# Altium schematic symbol library MCU_NXP_HC11.SchLib: 10 symbols
Pins are listed as number, name and electrical type; pins without a type are passive.

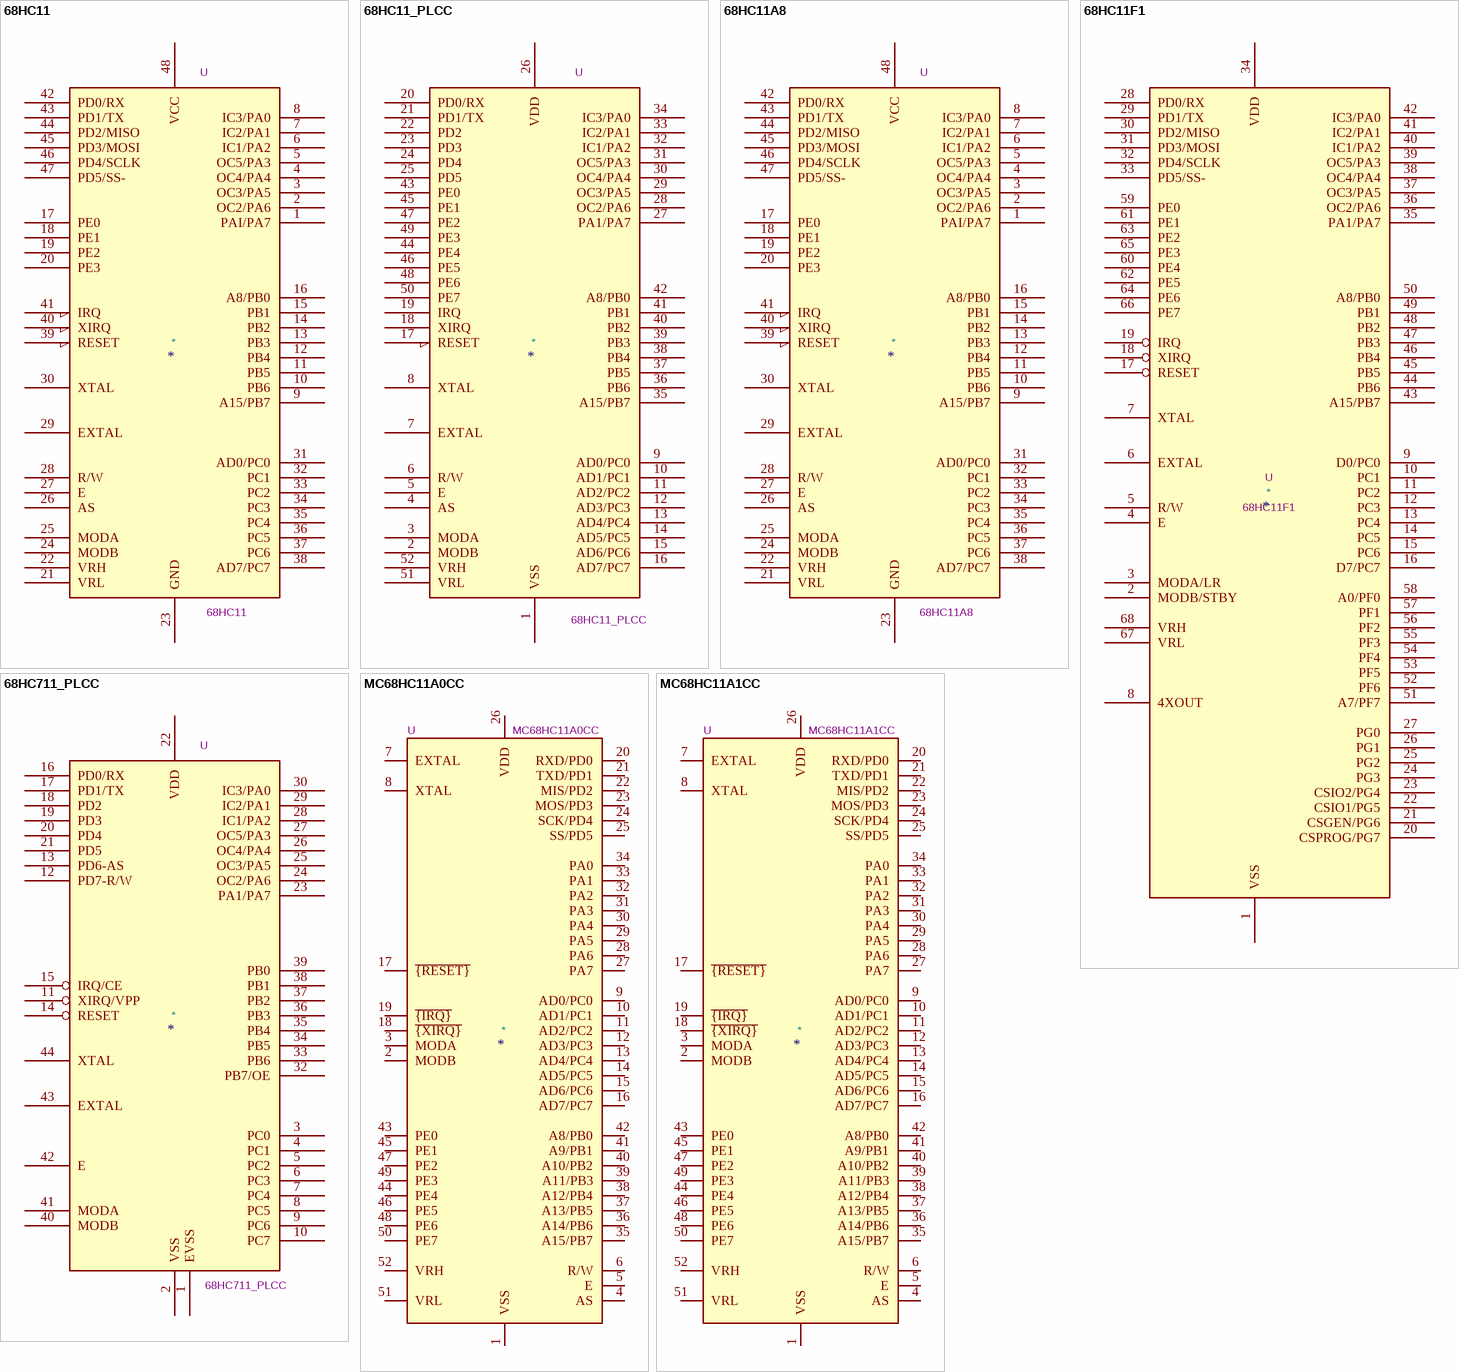
[diagram p0: symbols 68HC11 to MC68HC11A1CC]

## 68HC11
designator *  value 68HC11  Reference: U
ki_keywords: MCU Microcontroller HC11; ki_description: HC11 Microcontroller
pins: 1 PAI/PA7, 2 OC2/PA6, 3 OC3/PA5, 4 OC4/PA4, 5 OC5/PA3, 6 IC1/PA2, 7 IC2/PA1, 8 IC3/PA0, 9 A15/PB7, 10 PB6, 11 PB5, 12 PB4, 13 PB3, 14 PB2, 15 PB1, 16 A8/PB0, 17 PE0, 18 PE1, 19 PE2, 20 PE3, 21 VRL, 22 VRH, 23 GND, 24 MODB, 25 MODA, 26 AS, 27 E, 28 R/W, 29 EXTAL, 30 XTAL, 31 AD0/PC0, 32 PC1, 33 PC2, 34 PC3, 35 PC4, 36 PC5, 37 PC6, 38 AD7/PC7, 39 RESET, 40 XIRQ, 41 IRQ, 42 PD0/RX, 43 PD1/TX, 44 PD2/MISO, 45 PD3/MOSI, 46 PD4/SCLK, 47 PD5/SS-, 48 VCC

## 68HC11_PLCC
designator *  value 68HC11_PLCC  Reference: U
ki_keywords: MCU Microcontroller HC11; ki_description: HC11 Microcontroller, PLCC-52
pins: 1 VSS, 2 MODB, 3 MODA, 4 AS, 5 E, 6 R/W, 7 EXTAL, 8 XTAL, 9 AD0/PC0, 10 AD1/PC1, 11 AD2/PC2, 12 AD3/PC3, 13 AD4/PC4, 14 AD5/PC5, 15 AD6/PC6, 16 AD7/PC7, 17 RESET, 18 XIRQ, 19 IRQ, 20 PD0/RX, 21 PD1/TX, 22 PD2, 23 PD3, 24 PD4, 25 PD5, 26 VDD, 27 PA1/PA7, 28 OC2/PA6, 29 OC3/PA5, 30 OC4/PA4, 31 OC5/PA3, 32 IC1/PA2, 33 IC2/PA1, 34 IC3/PA0, 35 A15/PB7, 36 PB6, 37 PB5, 38 PB4, 39 PB3, 40 PB2, 41 PB1, 42 A8/PB0, 43 PE0, 44 PE4, 45 PE1, 46 PE5, 47 PE2, 48 PE6, 49 PE3, 50 PE7, 51 VRL, 52 VRH

## 68HC11A8
designator *  value 68HC11A8  Reference: U
ki_keywords: MCU Microcontroller HC11; ki_description: HC11 Microcontroller
pins: 1 PAI/PA7, 2 OC2/PA6, 3 OC3/PA5, 4 OC4/PA4, 5 OC5/PA3, 6 IC1/PA2, 7 IC2/PA1, 8 IC3/PA0, 9 A15/PB7, 10 PB6, 11 PB5, 12 PB4, 13 PB3, 14 PB2, 15 PB1, 16 A8/PB0, 17 PE0, 18 PE1, 19 PE2, 20 PE3, 21 VRL, 22 VRH, 23 GND, 24 MODB, 25 MODA, 26 AS, 27 E, 28 R/W, 29 EXTAL, 30 XTAL, 31 AD0/PC0, 32 PC1, 33 PC2, 34 PC3, 35 PC4, 36 PC5, 37 PC6, 38 AD7/PC7, 39 RESET, 40 XIRQ, 41 IRQ, 42 PD0/RX, 43 PD1/TX, 44 PD2/MISO, 45 PD3/MOSI, 46 PD4/SCLK, 47 PD5/SS-, 48 VCC

## 68HC11F1
designator *  value 68HC11F1  Reference: U
ki_keywords: MCU Microcontroller HC11; ki_description: HC11 Microcontroller; Datasheet: https://www.nxp.com/docs/en/data-sheet/MC68HC11FTS.pdf
pins: 1 VSS, 2 MODB/STBY, 3 MODA/LR, 4 E, 5 R/W, 6 EXTAL, 7 XTAL, 8 4XOUT, 9 D0/PC0, 10 PC1, 11 PC2, 12 PC3, 13 PC4, 14 PC5, 15 PC6, 16 D7/PC7, 17 RESET, 18 XIRQ, 19 IRQ, 20 CSPROG/PG7, 21 CSGEN/PG6, 22 CSIO1/PG5, 23 CSIO2/PG4, 24 PG3, 25 PG2, 26 PG1, 27 PG0, 28 PD0/RX, 29 PD1/TX, 30 PD2/MISO, 31 PD3/MOSI, 32 PD4/SCLK, 33 PD5/SS-, 34 VDD, 35 PA1/PA7, 36 OC2/PA6, 37 OC3/PA5, 38 OC4/PA4, 39 OC5/PA3, 40 IC1/PA2, 41 IC2/PA1, 42 IC3/PA0, 43 A15/PB7, 44 PB6, 45 PB5, 46 PB4, 47 PB3, 48 PB2, 49 PB1, 50 A8/PB0, 51 A7/PF7, 52 PF6, 53 PF5, 54 PF4, 55 PF3, 56 PF2, 57 PF1, 58 A0/PF0, 59 PE0, 60 PE4, 61 PE1, 62 PE5, 63 PE2, 64 PE6, 65 PE3, 66 PE7, 67 VRL, 68 VRH

## 68HC711_PLCC
designator *  value 68HC711_PLCC  Reference: U
ki_keywords: MCU Microcontroller HC11; ki_description: HC11 Microcontroller, PLCC-44
pins: 1 EVSS, 2 VSS, 3 PC0, 4 PC1, 5 PC2, 6 PC3, 7 PC4, 8 PC5, 9 PC6, 10 PC7, 11 XIRQ/VPP, 12 PD7-R/W, 13 PD6-AS, 14 RESET, 15 IRQ/CE, 16 PD0/RX, 17 PD1/TX, 18 PD2, 19 PD3, 20 PD4, 21 PD5, 22 VDD, 23 PA1/PA7, 24 OC2/PA6, 25 OC3/PA5, 26 OC4/PA4, 27 OC5/PA3, 28 IC1/PA2, 29 IC2/PA1, 30 IC3/PA0, 32 PB7/OE, 33 PB6, 34 PB5, 35 PB4, 36 PB3, 37 PB2, 38 PB1, 39 PB0, 40 MODB, 41 MODA, 42 E, 43 EXTAL, 44 XTAL

## MC68HC11A0CC
designator *  value MC68HC11A0CC  Reference: U
ki_keywords: HC11 MCU Microcotroller; ki_description: ROMless, 256B RAM
pins: 1 VSS, 2 MODB, 3 MODA, 4 AS, 5 E, 6 R/W, 7 EXTAL, 8 XTAL, 9 AD0/PC0, 10 AD1/PC1, 11 AD2/PC2, 12 AD3/PC3, 13 AD4/PC4, 14 AD5/PC5, 15 AD6/PC6, 16 AD7/PC7, 17 ~{{RESET}}, 18 ~{{XIRQ}}, 19 ~{{IRQ}}, 20 RXD/PD0, 21 TXD/PD1, 22 MIS/PD2, 23 MOS/PD3, 24 SCK/PD4, 25 SS/PD5, 26 VDD, 27 PA7, 28 PA6, 29 PA5, 30 PA4, 31 PA3, 32 PA2, 33 PA1, 34 PA0, 35 A15/PB7, 36 A14/PB6, 37 A13/PB5, 38 A12/PB4, 39 A11/PB3, 40 A10/PB2, 41 A9/PB1, 42 A8/PB0, 43 PE0, 44 PE4, 45 PE1, 46 PE5, 47 PE2, 48 PE6, 49 PE3, 50 PE7, 51 VRL, 52 VRH

## MC68HC11A1CC
designator *  value MC68HC11A1CC  Reference: U
ki_keywords: HC11 MCU Microcotroller; ki_description: ROMLess, 256B RAM, 512B EEPROM
pins: 1 VSS, 2 MODB, 3 MODA, 4 AS, 5 E, 6 R/W, 7 EXTAL, 8 XTAL, 9 AD0/PC0, 10 AD1/PC1, 11 AD2/PC2, 12 AD3/PC3, 13 AD4/PC4, 14 AD5/PC5, 15 AD6/PC6, 16 AD7/PC7, 17 ~{{RESET}}, 18 ~{{XIRQ}}, 19 ~{{IRQ}}, 20 RXD/PD0, 21 TXD/PD1, 22 MIS/PD2, 23 MOS/PD3, 24 SCK/PD4, 25 SS/PD5, 26 VDD, 27 PA7, 28 PA6, 29 PA5, 30 PA4, 31 PA3, 32 PA2, 33 PA1, 34 PA0, 35 A15/PB7, 36 A14/PB6, 37 A13/PB5, 38 A12/PB4, 39 A11/PB3, 40 A10/PB2, 41 A9/PB1, 42 A8/PB0, 43 PE0, 44 PE4, 45 PE1, 46 PE5, 47 PE2, 48 PE6, 49 PE3, 50 PE7, 51 VRL, 52 VRH

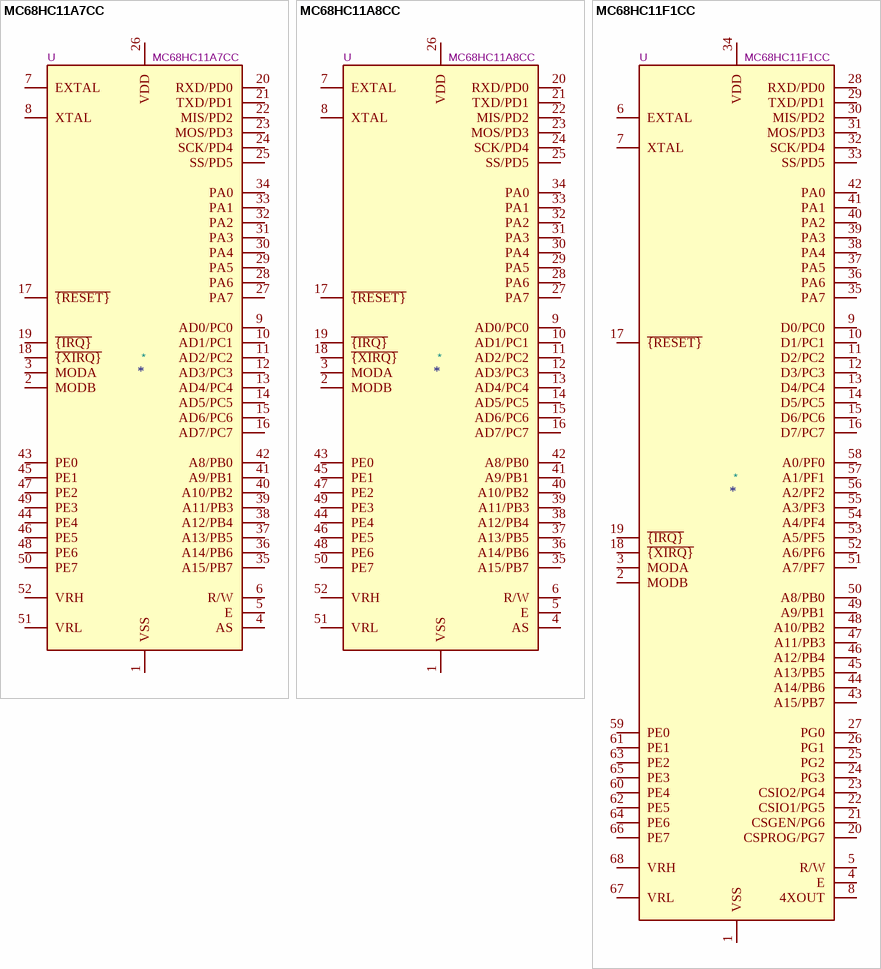
[diagram p1: symbols MC68HC11A7CC to MC68HC11F1CC]

## MC68HC11A7CC
designator *  value MC68HC11A7CC  Reference: U
ki_keywords: HC11 MCU Microcotroller; ki_description: 8K ROM, 256B RAM, 512B EEPROM
pins: 1 VSS, 2 MODB, 3 MODA, 4 AS, 5 E, 6 R/W, 7 EXTAL, 8 XTAL, 9 AD0/PC0, 10 AD1/PC1, 11 AD2/PC2, 12 AD3/PC3, 13 AD4/PC4, 14 AD5/PC5, 15 AD6/PC6, 16 AD7/PC7, 17 ~{{RESET}}, 18 ~{{XIRQ}}, 19 ~{{IRQ}}, 20 RXD/PD0, 21 TXD/PD1, 22 MIS/PD2, 23 MOS/PD3, 24 SCK/PD4, 25 SS/PD5, 26 VDD, 27 PA7, 28 PA6, 29 PA5, 30 PA4, 31 PA3, 32 PA2, 33 PA1, 34 PA0, 35 A15/PB7, 36 A14/PB6, 37 A13/PB5, 38 A12/PB4, 39 A11/PB3, 40 A10/PB2, 41 A9/PB1, 42 A8/PB0, 43 PE0, 44 PE4, 45 PE1, 46 PE5, 47 PE2, 48 PE6, 49 PE3, 50 PE7, 51 VRL, 52 VRH

## MC68HC11A8CC
designator *  value MC68HC11A8CC  Reference: U
ki_keywords: HC11 MCU Microcotroller; ki_description: 8K ROM, 256B RAM, 512B EEPROM
pins: 1 VSS, 2 MODB, 3 MODA, 4 AS, 5 E, 6 R/W, 7 EXTAL, 8 XTAL, 9 AD0/PC0, 10 AD1/PC1, 11 AD2/PC2, 12 AD3/PC3, 13 AD4/PC4, 14 AD5/PC5, 15 AD6/PC6, 16 AD7/PC7, 17 ~{{RESET}}, 18 ~{{XIRQ}}, 19 ~{{IRQ}}, 20 RXD/PD0, 21 TXD/PD1, 22 MIS/PD2, 23 MOS/PD3, 24 SCK/PD4, 25 SS/PD5, 26 VDD, 27 PA7, 28 PA6, 29 PA5, 30 PA4, 31 PA3, 32 PA2, 33 PA1, 34 PA0, 35 A15/PB7, 36 A14/PB6, 37 A13/PB5, 38 A12/PB4, 39 A11/PB3, 40 A10/PB2, 41 A9/PB1, 42 A8/PB0, 43 PE0, 44 PE4, 45 PE1, 46 PE5, 47 PE2, 48 PE6, 49 PE3, 50 PE7, 51 VRL, 52 VRH

## MC68HC11F1CC
designator *  value MC68HC11F1CC  Reference: U
ki_keywords: HC11 MCU Microcontroller; ki_description: ROMless, 1K RAM, 512B EEPROM, PLCC-68; ki_fp_filters: PLCC*; Footprint: Package_LCC:PLCC-68; Datasheet: http://cache.freescale.com/files/microcontrollers/doc/data_sheet/MC68HC11F1.pdf
pins: 1 VSS, 2 MODB, 3 MODA, 4 E, 5 R/W, 6 EXTAL, 7 XTAL, 8 4XOUT, 9 D0/PC0, 10 D1/PC1, 11 D2/PC2, 12 D3/PC3, 13 D4/PC4, 14 D5/PC5, 15 D6/PC6, 16 D7/PC7, 17 ~{{RESET}}, 18 ~{{XIRQ}}, 19 ~{{IRQ}}, 20 CSPROG/PG7, 21 CSGEN/PG6, 22 CSIO1/PG5, 23 CSIO2/PG4, 24 PG3, 25 PG2, 26 PG1, 27 PG0, 28 RXD/PD0, 29 TXD/PD1, 30 MIS/PD2, 31 MOS/PD3, 32 SCK/PD4, 33 SS/PD5, 34 VDD, 35 PA7, 36 PA6, 37 PA5, 38 PA4, 39 PA3, 40 PA2, 41 PA1, 42 PA0, 43 A15/PB7, 44 A14/PB6, 45 A13/PB5, 46 A12/PB4, 47 A11/PB3, 48 A10/PB2, 49 A9/PB1, 50 A8/PB0, 51 A7/PF7, 52 A6/PF6, 53 A5/PF5, 54 A4/PF4, 55 A3/PF3, 56 A2/PF2, 57 A1/PF1, 58 A0/PF0, 59 PE0, 60 PE4, 61 PE1, 62 PE5, 63 PE2, 64 PE6, 65 PE3, 66 PE7, 67 VRL, 68 VRH